# Altium schematic symbol library 282837-2.SchLib: 1 symbol
Pins are listed as number, name and electrical type; pins without a type are passive.

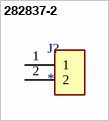
[diagram p0: symbol 282837-2]

## 282837-2
designator J?
footprint Model Name (Footprint not found)
pins: 1, 2